# Altium footprint library ftg_lib.PcbLib: 53 footprints (part 3 of 4)
Each footprint in its own frame and in the unit in brackets; x right, y up, seen from the top. Pads: shape width x height; smd on the part's side, far side on the other; paste and mask are expansions set on the pad; w line width, h text height; cw(c..) or ccw(c..) is an arc to the next point about the centre after c.
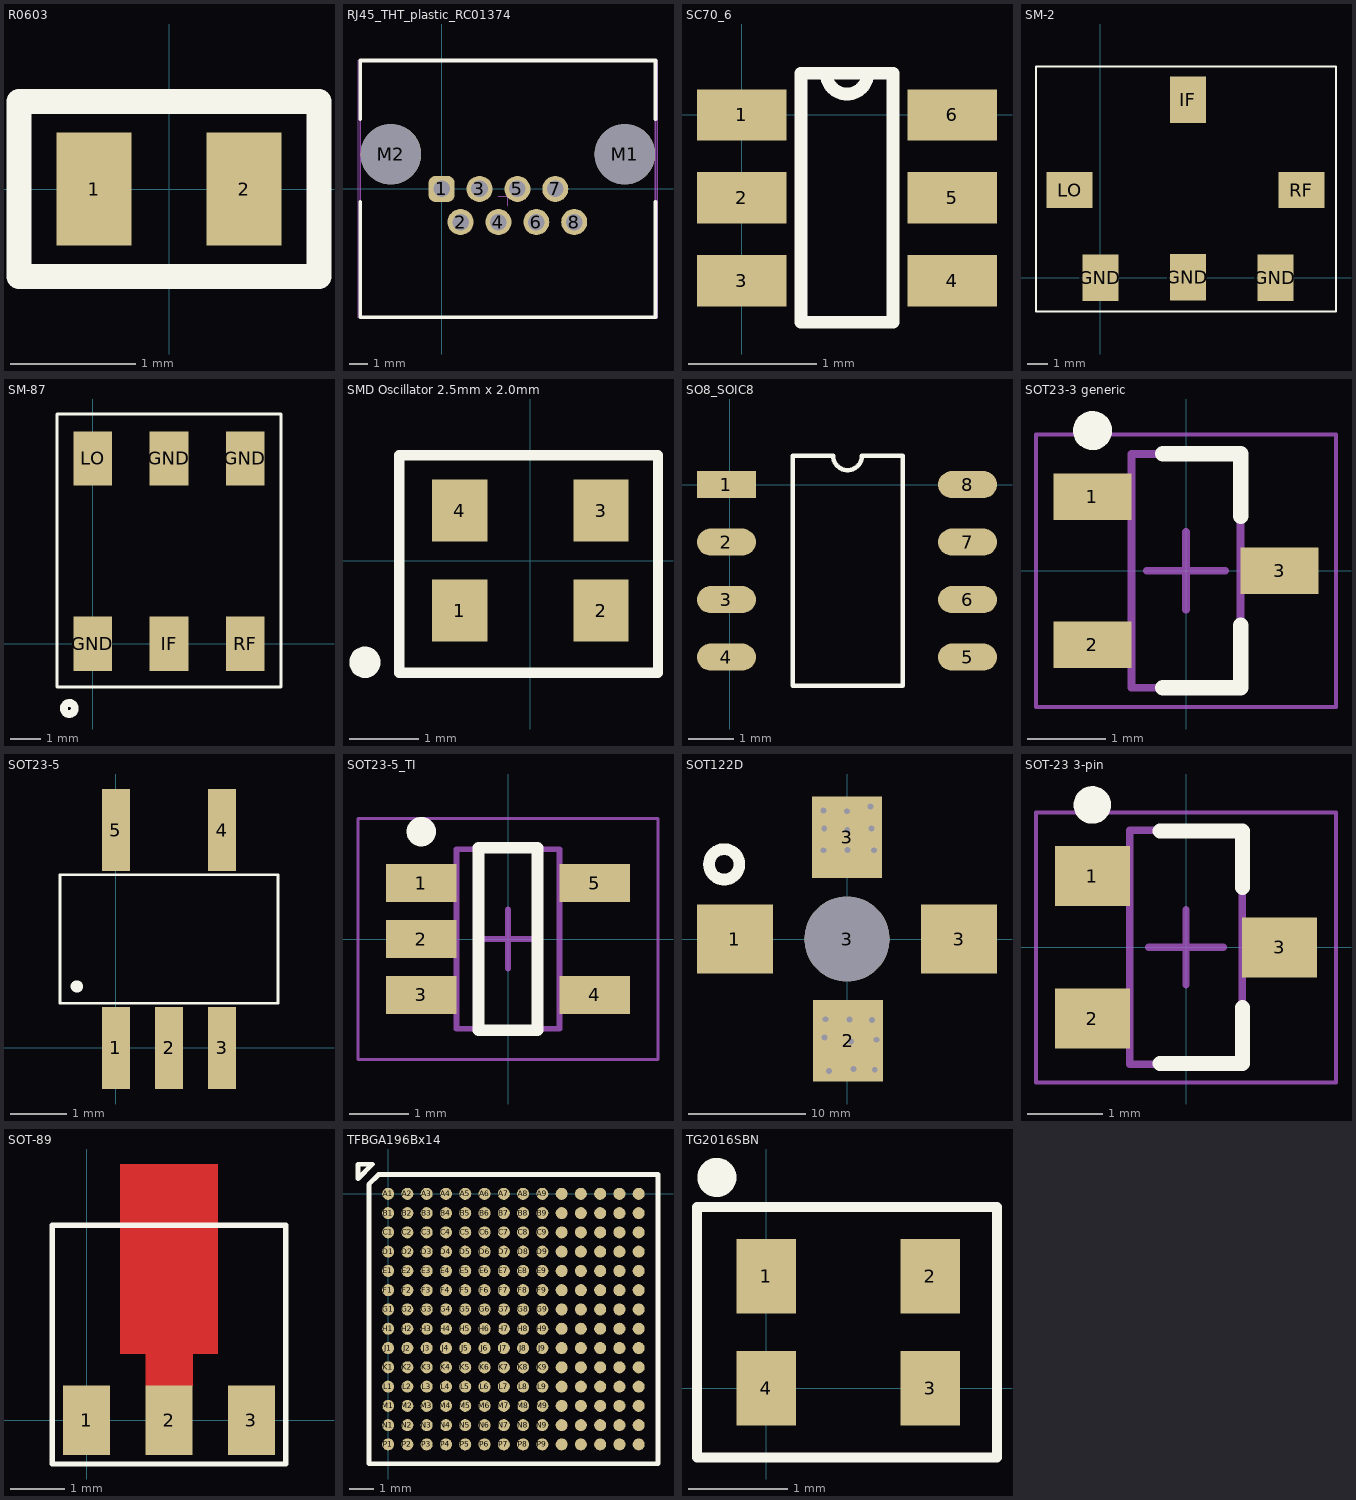
[diagram p2: the footprints below, top view; thin cyan lines are the x and y axes]

## R0603 [mm]
pads (2):
  rect 0.6x0.9 smd: 1(-0.6,0) 2(0.6,0)
Top Overlay:
  lines w0.2: -1.2,-0.7 1.2,-0.7 1.2,0.7 -1.2,0.7 -1.2,-0.55 -1.2,-0.7

## RJ45_THT_plastic_RC01374 [mm] "RJ45 THT Plastic tab up"
pads (10):
  rrect50% 1.4x1.4 hole 0.89: 1(0,0)
  round 1.4 hole 0.89: 2(1.02,-1.78) 3(2.04,0) 4(3.06,-1.78) 5(4.08,0) 6(5.1,-1.78) 7(6.12,0) 8(7.14,-1.78)
  round 3.25 hole 3.25 unplated: M1(9.87,1.87) M2(-2.73,1.87)
Top Overlay:
  lines w0.2: -4.38,-0.7 -4.38,-6.9 11.52,-6.9 11.52,-0.7 ; -4.38,3.75 -4.38,6.92 11.52,6.92 11.52,3.75 ; -3.685,6.915 -3.68,6.92
Top 3D Body:
  lines w0.1: -4.38,-6.9 -4.38,6.92 ; -3.685,-6.9 10.795,-6.9 ; -3.685,6.92 10.795,6.92 ; 11.52,-6.9 11.52,6.92
Top Designator:
  text ".Designator" at 11.053,0.1 h1.5
Top Courtyard:
  lines w0.05: -4.5,-6.925 -4.5,6.92 11.65,6.92 11.65,-6.925 -4.38,-6.925 ; 3.055,-0.4 4.055,-0.4 ; 3.555,-0.9 3.555,0.1
Top Component Outline:
  lines w0.1: -4.38,6.1 -4.38,-6.9 11.52,-6.9 11.52,6.92 ; -3.685,6.92 10.795,6.92

## SC70_6 [mm]
pads (6):
  rect 0.7x0.4 smd: 1(0,0) 2(0,-0.65) 3(0,-1.3) 4(1.65,-1.3) 5(1.65,-0.65) 6(1.65,0)
Top Overlay:
  lines w0.1: 0.465,-1.625 0.465,0.325 0.987,0.325 cw(c0.825,0.325) 0.663,0.325 1.185,0.325 1.185,-1.625 0.465,-1.625

## SJ-3523-SMT-TR [mm] "3.5mm TRS jack"
height 5

## SM-2 [mm] "SM-2 case"
height 6.35
pads (6):
  rect 1.77x2.28 smd: GND(0,0) GND(4.32,0.025) GND(8.64,0) IF(4.32,8.775)
  rect 2.28x1.77 smd: LO(-1.52,4.32) RF(9.92,4.32)
Top Overlay:
  lines w0.1: -3.175,-1.675 11.625,-1.675 11.625,10.425 -3.175,10.425 -3.175,5.05 -3.175,-1.625

## SM-87 [mm] "SM-87 Mixer package"
height 5.08
pads (6):
  rect 1.27x1.78 smd: GND(0,0) GND(2.5,6.09) GND(5,6.09) IF(2.5,0) LO(0,6.09) RF(5,0)
Top Overlay:
  circle w0.254: c-0.775,-2.125 r0.182
  lines w0.1: -1.175,-1.425 -1.175,7.55 6.175,7.55 6.175,-1.425 -1.175,-1.425

## SMD Oscillator 2.5mm x 2.0mm [mm] "Taitien SMD Oscillator 2.5mm x 2.0mm"
height 0.7
pads (4):
  rect 0.8x0.9 smd: 1(-1.025,-0.725) 2(1.025,-0.725) 3(1.025,0.725) 4(-1.025,0.725)
Top Overlay:
  circle w0.254: c-2.4,-1.475 r0.1
  lines w0.15: -1.9,-1.625 1.85,-1.625 1.85,1.525 -1.9,1.525 -1.9,-1.625

## SO8_SOIC8 [mm] "SO8 SOIC8"
height 2
pads (8):
  rect 1.3x0.6 smd: 1(-0.075,0)
  oval 1.3x0.6 smd: 2(-0.075,-1.27) 3(-0.075,-2.54) 4(-0.075,-3.81) 5(5.25,-3.81) 6(5.25,-2.54) 7(5.25,-1.27) 8(5.25,0)
Top Overlay:
  lines w0.1: 1.385,-4.445 3.815,-4.445 3.815,0.635 2.917,0.635 cw(c2.6,0.635) 2.282,0.635 1.385,0.635 1.385,-4.445
3D body "SOIC08 narrow.stp": height 2, standoff 0, extent -0.482,-4.4 5.682,0.6

## SOT23-3 generic [mm] "SOT23, 3-Leads, Body 2,90x2,45mm, Pitch 0,95mm, IPC Medium Density"
height 1.1
pads (3):
  rect 1x0.6 smd: 1(-1.2,0.95) 2(-1.2,-0.95) 3(1.2,0)
Top Overlay:
  circle w0.25: c-1.2,1.8 r0.125
  lines w0.2: -0.3,-1.5 0.7,-1.5 0.7,-0.7 ; -0.3,1.5 0.7,1.5 0.7,0.7
Mechanical 13:
  lines w0.1: -0.7,-1.5 -0.7,1.5 0.7,1.5 0.7,-1.5 -0.7,-1.5
Mechanical 15:
  lines w0.05: -1.925,-1.75 -1.925,1.75 1.925,1.75 1.925,-1.75 -1.925,-1.75
  lines w0.1: -0.5,0 0.5,0 ; 0,-0.5 0,0.5
3D body "SOT23-3 generic.step": height 1.1, standoff 0, extent -1.3,-1.5 1.3,1.5

## SOT23-5 [mm] "SOT23-5 case"
height 1.6
pads (5):
  rect 0.5x1.473 smd: 1(0,0) 2(0.95,0) 3(1.9,0) 4(1.9,3.9) 5(0,3.9)
Top Overlay:
  circle w0.2: c-0.7,1.1 r0.01
  lines w0.05: -1,0.8 -1,3.1 2.9,3.1 2.9,0.8 -1,0.8
3D body "SC-74A.stp": height 1.45, standoff 0, extent -0.6,0.35 2.5,3.55

## SOT23-5_TI [mm] "SOT23, 5-Leads, Body 2,90x2,80mm, Pitch 0,95mm, IPC Low Density"
height 1.45
pads (5):
  rect 1.2x0.65 smd: 1(-1.475,0.95) 2(-1.475,0) 3(-1.475,-0.95) 4(1.475,-0.95) 5(1.475,0.95)
Top Overlay:
  circle w0.25: c-1.475,1.825 r0.125
  lines w0.2: -0.5,-1.55 -0.5,1.55 0.5,1.55 0.5,-1.55 -0.5,-1.55
Mechanical 13:
  lines w0.1: -0.875,-1.525 0.875,-1.525 0.875,1.525 -0.875,1.525 -0.875,-1.525
Mechanical 15:
  lines w0.05: -2.55,-2.05 2.55,-2.05 2.55,2.05 -2.55,2.05 -2.55,-2.05
  lines w0.1: -0.5,0 0.5,0 ; 0,-0.5 0,0.5
3D body "SOT23-5_TI.step": height 1.45, standoff 0, extent -1.5,-1.525 1.5,1.525

## SOT122D [mm] "SOT122D studless RF transistor case"
height 3
pads (5):
  rect 6.5x5.9 smd: 1(-9.6,0) 3(9.6,0)
  rect 6x7 smd: 2(0.1,-8.725) 3(0,8.725)
  round 7.3 / inner round 7.3 / far side round 12 hole 7.3: 3(0,0)
via 0.55,-11.125 diameter 1 hole 0.5
via 0.35,-8.775 diameter 1 hole 0.5
via 0.2,-6.9 diameter 1 hole 0.5
via -1.85,-6.875 diameter 1 hole 0.5
via 2.15,-6.95 diameter 1 hole 0.5
via 2.325,7.6 diameter 1 hole 0.5
via -2,7.6 diameter 1 hole 0.5
via 0.05,7.625 diameter 1 hole 0.5
via 0.025,9.35 diameter 1 hole 0.5
via 0,10.95 diameter 1 hole 0.5
via -2,11 diameter 1 hole 0.5
via 2,11.35 diameter 1 hole 0.5
via 2.1,9.475 diameter 1 hole 0.5
via -1.95,9.475 diameter 1 hole 0.5
via 2.375,-11.2 diameter 1 hole 0.5
via -1.55,-11.3 diameter 1 hole 0.5
via -1.925,-8.45 diameter 1 hole 0.5
via 2.525,-8.625 diameter 1 hole 0.5
Top Overlay:
  circle w1: c-10.525,6.4 r1.304
3D body: height 2.3, standoff 0, extent -4.75,-4.747 4.75,4.747
3D body: height 0, standoff -1.5, extent -4.5,-4.5 4.5,4.5

## SOT-23 3-pin [mm] "SOT23, 3-Leads, Body 2,92x2,45mm, Pitch 0,95mm, IPC Medium Density"
height 1.2
pads (3):
  rect 1x0.8 smd: 1(-1.25,0.95) 2(-1.25,-0.95) 3(1.25,0)
Top Overlay:
  circle w0.25: c-1.25,1.9 r0.125
  lines w0.2: -0.35,-1.55 0.75,-1.55 0.75,-0.8 ; -0.35,1.55 0.75,1.55 0.75,0.8
Mechanical 13:
  lines w0.1: -0.75,-1.56 0.75,-1.56 0.75,1.56 -0.75,1.56 -0.75,-1.56
Mechanical 15:
  lines w0.05: -2,-1.8 2,-1.8 2,1.8 -2,1.8 -2,-1.8
  lines w0.1: -0.5,0 0.5,0 ; 0,-0.5 0,0.5
3D body "SOT95P245X120-3N.step": height 1.2, standoff 0, extent -1.4,-1.56 1.4,1.56

## SOT-89 [mm] "SOT-89/TO-243C case"
height 1.5
pads (3):
  rect 0.86x1.27 smd: 1(0,0) 2(1.51,0) 3(3.02,0)
Top Layer:
  rectangle: 0.61,1.215 2.41,4.695
  rectangle: 1.075,0.625 1.95,1.215
Top Overlay:
  lines w0.1: -0.625,-0.8 -0.625,3.575 3.65,3.575 3.65,-0.8 -0.625,-0.8

## TFBGA196Bx14 [mm]
pads (196):
  round 0.5 smd: A1(0,0) A2(0.8,0) A3(1.6,0) A4(2.4,0) A5(3.2,0) A6(4,0) A7(4.8,0) A8(5.6,0) A9(6.4,0) A10(7.2,0) A11(8,0) A12(8.8,0) A13(9.6,0) A14(10.4,0) B1(0,-0.8) B2(0.8,-0.8) B3(1.6,-0.8) B4(2.4,-0.8) B5(3.2,-0.8) B6(4,-0.8) B7(4.8,-0.8) B8(5.6,-0.8) B9(6.4,-0.8) B10(7.2,-0.8) B11(8,-0.8) B12(8.8,-0.8) B13(9.6,-0.8) B14(10.4,-0.8) C1(0,-1.6) C2(0.8,-1.6) C3(1.6,-1.6) C4(2.4,-1.6) C5(3.2,-1.6) C6(4,-1.6) C7(4.8,-1.6) C8(5.6,-1.6) C9(6.4,-1.6) C10(7.2,-1.6) C11(8,-1.6) C12(8.8,-1.6) C13(9.6,-1.6) C14(10.4,-1.6) D1(0,-2.4) D2(0.8,-2.4) D3(1.6,-2.4) D4(2.4,-2.4) D5(3.2,-2.4) D6(4,-2.4) D7(4.8,-2.4) D8(5.6,-2.4) D9(6.4,-2.4) D10(7.2,-2.4) D11(8,-2.4) D12(8.8,-2.4) D13(9.6,-2.4) D14(10.4,-2.4) E1(0,-3.2) E2(0.8,-3.2) E3(1.6,-3.2) E4(2.4,-3.2) E5(3.2,-3.2) E6(4,-3.2) E7(4.8,-3.2) E8(5.6,-3.2) E9(6.4,-3.2) E10(7.2,-3.2) E11(8,-3.2) E12(8.8,-3.2) E13(9.6,-3.2) E14(10.4,-3.2) F1(0,-4) F2(0.8,-4) F3(1.6,-4) F4(2.4,-4) F5(3.2,-4) F6(4,-4) F7(4.8,-4) F8(5.6,-4) F9(6.4,-4) F10(7.2,-4) F11(8,-4) F12(8.8,-4) F13(9.6,-4) F14(10.4,-4) G1(0,-4.8) G2(0.8,-4.8) G3(1.6,-4.8) G4(2.4,-4.8) G5(3.2,-4.8) G6(4,-4.8) G7(4.8,-4.8) G8(5.6,-4.8) G9(6.4,-4.8) G10(7.2,-4.8) G11(8,-4.8) G12(8.8,-4.8) G13(9.6,-4.8) G14(10.4,-4.8) H1(0,-5.6) H2(0.8,-5.6) H3(1.6,-5.6) H4(2.4,-5.6) H5(3.2,-5.6) H6(4,-5.6) H7(4.8,-5.6) H8(5.6,-5.6) H9(6.4,-5.6) H10(7.2,-5.6) H11(8,-5.6) H12(8.8,-5.6) H13(9.6,-5.6) H14(10.4,-5.6) J1(0,-6.4) J2(0.8,-6.4) J3(1.6,-6.4) J4(2.4,-6.4) J5(3.2,-6.4) J6(4,-6.4) J7(4.8,-6.4) J8(5.6,-6.4) J9(6.4,-6.4) J10(7.2,-6.4) J11(8,-6.4) J12(8.8,-6.4) J13(9.6,-6.4) J14(10.4,-6.4) K1(0,-7.2) K2(0.8,-7.2) K3(1.6,-7.2) K4(2.4,-7.2) K5(3.2,-7.2) K6(4,-7.2) K7(4.8,-7.2) K8(5.6,-7.2) K9(6.4,-7.2) K10(7.2,-7.2) K11(8,-7.2) K12(8.8,-7.2) K13(9.6,-7.2) K14(10.4,-7.2) L1(0,-8) L2(0.8,-8) L3(1.6,-8) L4(2.4,-8) L5(3.2,-8) L6(4,-8) L7(4.8,-8) L8(5.6,-8) L9(6.4,-8) L10(7.2,-8) L11(8,-8) L12(8.8,-8) L13(9.6,-8) L14(10.4,-8) M1(0,-8.8) M2(0.8,-8.8) M3(1.6,-8.8) M4(2.4,-8.8) M5(3.2,-8.8) M6(4,-8.8) M7(4.8,-8.8) M8(5.6,-8.8) M9(6.4,-8.8) M10(7.2,-8.8) M11(8,-8.8) M12(8.8,-8.8) M13(9.6,-8.8) M14(10.4,-8.8) N1(0,-9.6) N2(0.8,-9.6) N3(1.6,-9.6) N4(2.4,-9.6) N5(3.2,-9.6) N6(4,-9.6) N7(4.8,-9.6) N8(5.6,-9.6) N9(6.4,-9.6) N10(7.2,-9.6) N11(8,-9.6) N12(8.8,-9.6) N13(9.6,-9.6) N14(10.4,-9.6) P1(0,-10.4) P2(0.8,-10.4) P3(1.6,-10.4) P4(2.4,-10.4) P5(3.2,-10.4) P6(4,-10.4) P7(4.8,-10.4) P8(5.6,-10.4) P9(6.4,-10.4) P10(7.2,-10.4) P11(8,-10.4) P12(8.8,-10.4) P13(9.6,-10.4) P14(10.4,-10.4)
Top Overlay:
  lines w0.2: -0.9,0.975 -0.65,1.225 ; -0.65,1.225 -1.25,0.625 -1.25,1.225 -0.65,1.225 ; -0.8,-11.2 11.2,-11.2 11.2,0.8 -0.4,0.8 -0.8,0.4 -0.8,-11.2

## TG2016SBN [mm] "TG2016SBN TCXO/VCXO case"
height 0.73
pads (4):
  rect 0.6x0.75 smd: 1(0,1.13) 2(1.65,1.13) 3(1.65,0) 4(0,0)
Top Overlay:
  circle w0.254: c-0.5,2.125 r0.071
  lines w0.1: -0.7,-0.7 2.325,-0.7 2.325,1.825 -0.7,1.825 -0.7,-0.7